# Altium schematic symbol library MCU_Cortex_M4_lib.SchLib: 18 symbols (part 1 of 2)
Pins are listed as number, name and electrical type; pins without a type are passive.

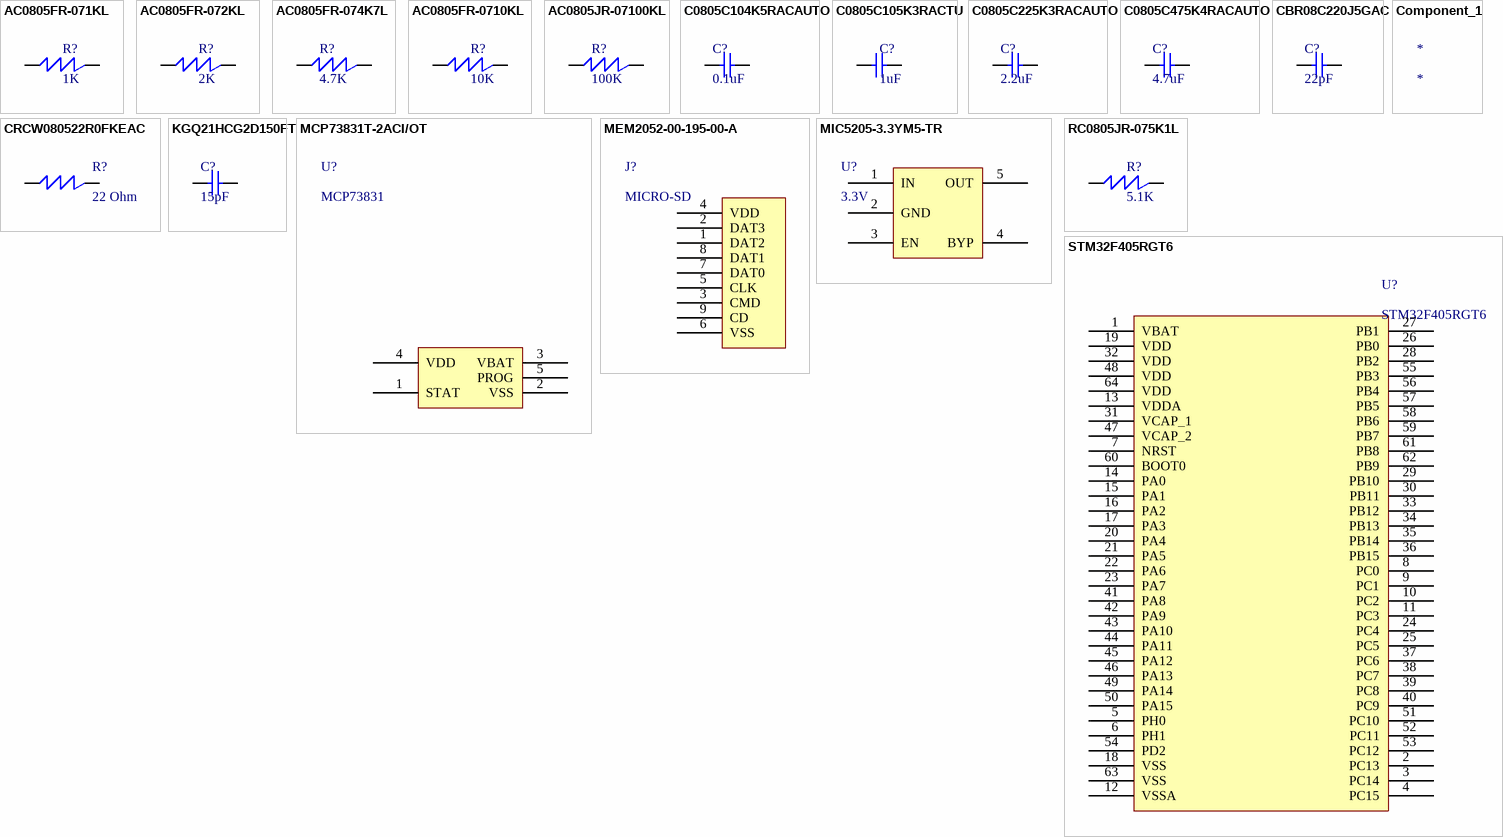
[diagram p0: symbols AC0805FR-071KL to STM32F405RGT6]

## AC0805FR-071KL
designator R?, comment 1K
Res Thick Film 0805 1K Ohm 1% 0.125W(1/8W) ±100ppm/C Pad SMD T/R Automotive AEC-Q200; Manufacturer: Yageo Group; Manufacturer Part Number: AC0805FR-071KL; Max Power Dissipation: 125mW; Value: 1kΩ; Temperature Coefficient: 100ppm/°C; Voltage Rating: 150V; Supplier: RS; Supplier Part Number: 1978173P; RoHS: Compliant; Category: Chip SMD Resistors; Stock: 9000; Pricing: 2500=0,006 (GBP); Case/Package: 0805; Case Code (Imperial): 0805; Case Code (Metric): 2012; China RoHS: Non-Compliant; Composition: Thick Film; Depth: 1.25mm; Features: Automotive AEC-Q200, Moisture Resistant; Height: 500µm; Lead Free: Lead Free; Length: 2mm; Lifecycle Status: Production; Max Operating Temperature: 155°C; Military Standard: Not; Min Operating Temperature: -55°C; Mounting Technology: Surface Mount; Number of Terminals: 2; Number of Terminations: 2; Power Rating: 125mW; Ratings: AEC-Q200; REACH SVHC: Yes; Schedule B: 8533210045, 8533210045|8533210045, 8533210045|8533210045|8533210045, 8533210045|8533210045|8533210045|8533210045; Termination: SMD/SMT; Tolerance: 1%; Width: 1.25mm; Working Voltage: 150V; ComponentLink1URL: https://datasheet.octopart.com:443/AC0805FR-071KL-Yageo-datasheet-182189377.pdf?src-supplier=IHS; ComponentLink1Description: https://datasheet.octopart.com:443/AC0805FR-071KL-Yageo-datasheet-182189377.pdf?src-supplier=IHS; ComponentLink2URL: https://datasheet.octopart.com:443/AC0805FR-071KL-Yageo-datasheet-178509465.pdf?src-supplier=Newark; ComponentLink2Description: https://datasheet.octopart.com:443/AC0805FR-071KL-Yageo-datasheet-178509465.pdf?src-supplier=Newark; ComponentLink3URL: https://datasheet.octopart.com/AC0805FR-071KL-Yageo-datasheet-12512238.pdf; ComponentLink3Description: https://datasheet.octopart.com/AC0805FR-071KL-Yageo-datasheet-12512238.pdf; ComponentLink4URL: https://datasheet.octopart.com:443/AC0805FR-071KL-Yageo-datasheet-166720450.pdf?src-supplier=Future+Electronics; ComponentLink4Description: https://datasheet.octopart.com:443/AC0805FR-071KL-Yageo-datasheet-166720450.pdf?src-supplier=Future+Electronics; ComponentLink5URL: https://datasheet.octopart.com:443/AC0805FR-071KL-Yageo-datasheet-151884373.pdf?src-supplier=Future+Electronics; ComponentLink5Description: https://datasheet.octopart.com:443/AC0805FR-071KL-Yageo-datasheet-151884373.pdf?src-supplier=Future+Electronics; ComponentLink6URL: https://datasheet.octopart.com:443/AC0805FR-071KL-Yageo-datasheet-137699919.pdf?src-supplier=Future+Electronics; ComponentLink6Description: https://datasheet.octopart.com:443/AC0805FR-071KL-Yageo-datasheet-137699919.pdf?src-supplier=Future+Electronics; ComponentLink7URL: https://datasheet.octopart.com:443/AC0805FR-071KL-Yageo-datasheet-24580492.pdf?src-supplier=Future+Electronics; ComponentLink7Description: https://datasheet.octopart.com:443/AC0805FR-071KL-Yageo-datasheet-24580492.pdf?src-supplier=Future+Electronics; ComponentLink8URL: https://datasheet.octopart.com:443/AC0805FR-071KL-Yageo-datasheet-13029202.pdf?src-supplier=Future+Electronics; ComponentLink8Description: https://datasheet.octopart.com:443/AC0805FR-071KL-Yageo-datasheet-13029202.pdf?src-supplier=Future+Electronics; ComponentLink9URL: https://datasheet.octopart.com:443/AC0805FR-071KL-Yageo-Group-datasheet-164768995.pdf?src-supplier=ODG+(Origin+Data+Global); ComponentLink9Description: https://datasheet.octopart.com:443/AC0805FR-071KL-Yageo-Group-datasheet-164768995.pdf?src-supplier=ODG+(Origin+Data+Global); ComponentLink10URL: https://datasheet.octopart.com:443/AC0805FR-071KL-Yageo-datasheet-159083007.pdf?src-supplier=TME; ComponentLink10Description: https://datasheet.octopart.com:443/AC0805FR-071KL-Yageo-datasheet-159083007.pdf?src-supplier=TME; ComponentLink11URL: http://sigma.octopart.com:80/conflict_mineral_statement/Yageo-company-3.pdf?src-supplier=Compliance+Statements; ComponentLink11Description: http://sigma.octopart.com:80/conflict_mineral_statement/Yageo-company-3.pdf?src-supplier=Compliance+Statements; ComponentLink12URL: http://sigma.octopart.com:80/rohs_statement/Yageo-company-2.pdf?src-supplier=Compliance+Statements; ComponentLink12Description: http://sigma.octopart.com:80/rohs_statement/Yageo-company-2.pdf?src-supplier=Compliance+Statements
pins: 1, 2

## AC0805FR-072KL
designator R?, comment 2K
Res Thick Film 0805 2K Ohm 1% 0.125W(1/8W) ±100ppm/C Pad SMD Automotive T/R; Manufacturer: Yageo Group; Manufacturer Part Number: AC0805FR-072KL; Manufacturer Package Identifier: 0805 (2012 metric); Max Power Dissipation: 125mW; Value: 2kΩ; Temperature Coefficient: 100ppm/°C; Voltage Rating: 150V; Supplier: Future Electronics; Supplier Part Number: AC0805FR-072KL; RoHS: Compliant; Category: Chip SMD Resistors; Stock: 60000; Pricing: 5000=0,0055, 20000=0,0053, 75000=0,0051, 150000=0,005, 375000=0,0048 (USD); Case/Package: 0805; Case Code (Imperial): 0805; Case Code (Metric): 2012; China RoHS: Non-Compliant; Composition: Thick Film; Features: Automotive AEC-Q200, Moisture Resistant; Height: 500µm; Length: 2mm; Lifecycle Status: Production; Max Operating Temperature: 155°C; Min Operating Temperature: -55°C; Mounting Technology: Surface Mount; Number of Terminals: 2; Number of Terminations: 2; Packaging: Tape & Reel; Power Rating: 125mW; Ratings: AEC-Q200; REACH SVHC: Yes; Schedule B: 8533210045, 8533210045|8533210045, 8533210045|8533210045|8533210045, 8533210045|8533210045|8533210045|8533210045; Termination: SMD/SMT; Tolerance: 1%; Weight: 5.499807mg; Width: 1.25mm; Working Voltage: 150V; ComponentLink1URL: https://datasheet.octopart.com:443/AC0805FR-072KL-Yageo-datasheet-182189377.pdf?src-supplier=IHS; ComponentLink1Description: https://datasheet.octopart.com:443/AC0805FR-072KL-Yageo-datasheet-182189377.pdf?src-supplier=IHS; ComponentLink2URL: https://datasheet.octopart.com:443/AC0805FR-072KL-Yageo-datasheet-178509465.pdf?src-supplier=Newark; ComponentLink2Description: https://datasheet.octopart.com:443/AC0805FR-072KL-Yageo-datasheet-178509465.pdf?src-supplier=Newark; ComponentLink3URL: https://datasheet.octopart.com:443/AC0805FR-072KL-Yageo-Group-datasheet-188689268.pdf?src-supplier=LCSC; ComponentLink3Description: https://datasheet.octopart.com:443/AC0805FR-072KL-Yageo-Group-datasheet-188689268.pdf?src-supplier=LCSC; ComponentLink4URL: https://datasheet.octopart.com:443/AC0805FR-072KL-Yageo-datasheet-166720450.pdf?src-supplier=Future+Electronics; ComponentLink4Description: https://datasheet.octopart.com:443/AC0805FR-072KL-Yageo-datasheet-166720450.pdf?src-supplier=Future+Electronics; ComponentLink5URL: https://datasheet.octopart.com:443/AC0805FR-072KL-Yageo-datasheet-151884373.pdf?src-supplier=Future+Electronics; ComponentLink5Description: https://datasheet.octopart.com:443/AC0805FR-072KL-Yageo-datasheet-151884373.pdf?src-supplier=Future+Electronics; ComponentLink6URL: https://datasheet.octopart.com:443/AC0805FR-072KL-Yageo-datasheet-137699919.pdf?src-supplier=Future+Electronics; ComponentLink6Description: https://datasheet.octopart.com:443/AC0805FR-072KL-Yageo-datasheet-137699919.pdf?src-supplier=Future+Electronics; ComponentLink7URL: https://datasheet.octopart.com:443/AC0805FR-072KL-Yageo-datasheet-83209224.pdf?src-supplier=Future+Electronics; ComponentLink7Description: https://datasheet.octopart.com:443/AC0805FR-072KL-Yageo-datasheet-83209224.pdf?src-supplier=Future+Electronics; ComponentLink8URL: https://datasheet.octopart.com:443/AC0805FR-072KL-Yageo-datasheet-62139191.pdf?src-supplier=Future+Electronics; ComponentLink8Description: https://datasheet.octopart.com:443/AC0805FR-072KL-Yageo-datasheet-62139191.pdf?src-supplier=Future+Electronics; ComponentLink9URL: https://datasheet.octopart.com:443/AC0805FR-072KL-Yageo-Group-datasheet-164768995.pdf?src-supplier=ODG+(Origin+Data+Global); ComponentLink9Description: https://datasheet.octopart.com:443/AC0805FR-072KL-Yageo-Group-datasheet-164768995.pdf?src-supplier=ODG+(Origin+Data+Global); ComponentLink10URL: https://datasheet.octopart.com:443/AC0805FR-072KL-Yageo-datasheet-159083007.pdf?src-supplier=TME; ComponentLink10Description: https://datasheet.octopart.com:443/AC0805FR-072KL-Yageo-datasheet-159083007.pdf?src-supplier=TME; ComponentLink11URL: https://datasheet.octopart.com/AC0805FR-072KL-Yageo-datasheet-12512238.pdf; ComponentLink11Description: https://datasheet.octopart.com/AC0805FR-072KL-Yageo-datasheet-12512238.pdf; ComponentLink12URL: http://sigma.octopart.com:80/conflict_mineral_statement/Yageo-company-3.pdf?src-supplier=Compliance+Statements; ComponentLink12Description: http://sigma.octopart.com:80/conflict_mineral_statement/Yageo-company-3.pdf?src-supplier=Compliance+Statements; ComponentLink13URL: http://sigma.octopart.com:80/rohs_statement/Yageo-company-2.pdf?src-supplier=Compliance+Statements; ComponentLink13Description: http://sigma.octopart.com:80/rohs_statement/Yageo-company-2.pdf?src-supplier=Compliance+Statements
pins: 1, 2

## AC0805FR-074K7L
designator R?, comment 4.7K
Res Thick Film 0805 4.7K Ohm 1% 0.125W(1/8W) ±100ppm/C Pad SMD Automotive T/R; Manufacturer: Yageo Group; Manufacturer Part Number: AC0805FR-074K7L; Max Power Dissipation: 125mW; Value: 4.7kΩ; Temperature Coefficient: 100ppm/°C; Voltage Rating: 150V; Supplier: RS; Supplier Part Number: 1978195; RoHS: Compliant; Category: Chip SMD Resistors; Stock: 5500; Pricing: 500=0,007, 2500=0,005 (GBP); Case/Package: 0805; Case Code (Imperial): 0805; Case Code (Metric): 2012; China RoHS: Non-Compliant; Composition: Thick Film; Country of Origin: Mainland China, Taiwan; Depth: 1.25mm; Export Control Classification Number (ECCN) Code: EAR99; Features: Automotive AEC-Q200, Moisture Resistant; Height: 500µm; Harmonized Tariff Schedule (HTS) Code: 8533.21.00.30; Introduction Date: 2012-04-10; Lead Free: Lead Free; Length: 2mm; Lifecycle Status: Production; Max Operating Temperature: 155°C; Military Standard: Not; Min Operating Temperature: -55°C; Mounting Technology: Surface Mount; Number of Terminals: 2; Number of Terminations: 2; Packaging: Tape & Reel; Power Rating: 125mW; Ratings: AEC-Q200; REACH SVHC: Yes; Schedule B: 8533210045, 8533210045|8533210045|8533210045|8533210045|8533210045; Termination: SMD/SMT; Tolerance: 1%; Width: 1.25mm; Working Voltage: 150V; ComponentLink1URL: https://datasheet.octopart.com:443/AC0805FR-074K7L-Yageo-datasheet-182189377.pdf?src-supplier=IHS; ComponentLink1Description: https://datasheet.octopart.com:443/AC0805FR-074K7L-Yageo-datasheet-182189377.pdf?src-supplier=IHS; ComponentLink2URL: https://datasheet.octopart.com:443/AC0805FR-074K7L-Yageo-datasheet-83209224.pdf?src-supplier=Upverter; ComponentLink2Description: https://datasheet.octopart.com:443/AC0805FR-074K7L-Yageo-datasheet-83209224.pdf?src-supplier=Upverter; ComponentLink3URL: https://datasheet.octopart.com:443/AC0805FR-074K7L-Yageo-datasheet-178509465.pdf?src-supplier=Newark; ComponentLink3Description: https://datasheet.octopart.com:443/AC0805FR-074K7L-Yageo-datasheet-178509465.pdf?src-supplier=Newark; ComponentLink4URL: https://datasheet.octopart.com:443/AC0805FR-074K7L-Yageo-datasheet-182877978.pdf?src-supplier=Newark; ComponentLink4Description: https://datasheet.octopart.com:443/AC0805FR-074K7L-Yageo-datasheet-182877978.pdf?src-supplier=Newark; ComponentLink5URL: https://datasheet.octopart.com:443/AC0805FR-074K7L-Yageo-Group-datasheet-188689268.pdf?src-supplier=LCSC; ComponentLink5Description: https://datasheet.octopart.com:443/AC0805FR-074K7L-Yageo-Group-datasheet-188689268.pdf?src-supplier=LCSC; ComponentLink6URL: https://datasheet.octopart.com/AC0805FR-074K7L-Yageo-datasheet-12512238.pdf; ComponentLink6Description: https://datasheet.octopart.com/AC0805FR-074K7L-Yageo-datasheet-12512238.pdf; ComponentLink7URL: https://datasheet.octopart.com:443/AC0805FR-074K7L-Yageo-Group-datasheet-190382391.pdf?src-supplier=Farnell; ComponentLink7Description: https://datasheet.octopart.com:443/AC0805FR-074K7L-Yageo-Group-datasheet-190382391.pdf?src-supplier=Farnell; ComponentLink8URL: https://datasheet.octopart.com:443/AC0805FR-074K7L-Yageo-datasheet-166720450.pdf?src-supplier=Future+Electronics; ComponentLink8Description: https://datasheet.octopart.com:443/AC0805FR-074K7L-Yageo-datasheet-166720450.pdf?src-supplier=Future+Electronics; ComponentLink9URL: https://datasheet.octopart.com:443/AC0805FR-074K7L-Yageo-datasheet-151884373.pdf?src-supplier=Future+Electronics; ComponentLink9Description: https://datasheet.octopart.com:443/AC0805FR-074K7L-Yageo-datasheet-151884373.pdf?src-supplier=Future+Electronics; ComponentLink10URL: https://datasheet.octopart.com:443/AC0805FR-074K7L-Yageo-datasheet-137699919.pdf?src-supplier=Future+Electronics; ComponentLink10Description: https://datasheet.octopart.com:443/AC0805FR-074K7L-Yageo-datasheet-137699919.pdf?src-supplier=Future+Electronics; ComponentLink11URL: https://datasheet.octopart.com:443/AC0805FR-074K7L-Yageo-datasheet-24580492.pdf?src-supplier=Future+Electronics; ComponentLink11Description: https://datasheet.octopart.com:443/AC0805FR-074K7L-Yageo-datasheet-24580492.pdf?src-supplier=Future+Electronics; ComponentLink12URL: https://datasheet.octopart.com:443/AC0805FR-074K7L-Yageo-datasheet-13029202.pdf?src-supplier=Future+Electronics; ComponentLink12Description: https://datasheet.octopart.com:443/AC0805FR-074K7L-Yageo-datasheet-13029202.pdf?src-supplier=Future+Electronics; ComponentLink13URL: https://datasheet.octopart.com:443/AC0805FR-074K7L-Yageo-Group-datasheet-164768995.pdf?src-supplier=ODG+(Origin+Data+Global); ComponentLink13Description: https://datasheet.octopart.com:443/AC0805FR-074K7L-Yageo-Group-datasheet-164768995.pdf?src-supplier=ODG+(Origin+Data+Global); ComponentLink14URL: https://datasheet.octopart.com:443/AC0805FR-074K7L-Yageo-datasheet-128680604.pdf?src-supplier=X-ON; ComponentLink14Description: https://datasheet.octopart.com:443/AC0805FR-074K7L-Yageo-datasheet-128680604.pdf?src-supplier=X-ON; ComponentLink15URL: http://sigma.octopart.com:80/conflict_mineral_statement/Yageo-company-3.pdf?src-supplier=Compliance+Statements; ComponentLink15Description: http://sigma.octopart.com:80/conflict_mineral_statement/Yageo-company-3.pdf?src-supplier=Compliance+Statements; ComponentLink16URL: http://sigma.octopart.com:80/rohs_statement/Yageo-company-2.pdf?src-supplier=Compliance+Statements; ComponentLink16Description: http://sigma.octopart.com:80/rohs_statement/Yageo-company-2.pdf?src-supplier=Compliance+Statements
pins: 1, 2

## AC0805FR-0710KL
designator R?, comment 10K
Res Thick Film 0805 10K Ohm 1% 0.125W(1/8W) ±100ppm/C Pad SMD Automotive T/R; Manufacturer: Yageo Group; Manufacturer Part Number: AC0805FR-0710KL; Max Power Dissipation: 125mW; Value: 10kΩ; Temperature Coefficient: 100ppm/°C; Voltage Rating: 150V; Supplier: RS; Supplier Part Number: 1978158; RoHS: Compliant; Category: Chip SMD Resistors; Stock: 10000; Pricing: 500=0,009, 1000=0,009, 2500=0,008, 5000=0,008 (GBP); Case/Package: 0805; Case Code (Imperial): 0805; Case Code (Metric): 2012; China RoHS: Non-Compliant; Composition: Thick Film; Depth: 1.25mm; Features: Anti-Sulfur, Automotive AEC-Q200, Moisture Resistant; Height: 500µm; Lead Free: Lead Free; Length: 2mm; Lifecycle Status: Production; Max Operating Temperature: 155°C; Military Standard: Not; Min Operating Temperature: -55°C; Mounting Technology: Surface Mount; Number of Terminals: 2; Number of Terminations: 2; Packaging: Tape & Reel; Power Rating: 125mW; Ratings: AEC-Q200; REACH SVHC: Yes; Schedule B: 8533210045, 8533210045|8533210045, 8533210045|8533210045|8533210045, 8533210045|8533210045|8533210045|8533210045; Termination: SMD/SMT; Tolerance: 1%; Width: 1.25mm; Working Voltage: 150V; ComponentLink1URL: https://datasheet.octopart.com:443/AC0805FR-0710KL-Yageo-datasheet-182189377.pdf?src-supplier=IHS; ComponentLink1Description: https://datasheet.octopart.com:443/AC0805FR-0710KL-Yageo-datasheet-182189377.pdf?src-supplier=IHS; ComponentLink2URL: https://datasheet.octopart.com:443/AC0805FR-0710KL-Yageo-datasheet-83209224.pdf?src-supplier=Upverter; ComponentLink2Description: https://datasheet.octopart.com:443/AC0805FR-0710KL-Yageo-datasheet-83209224.pdf?src-supplier=Upverter; ComponentLink3URL: https://datasheet.octopart.com:443/AC0805FR-0710KL-Yageo-datasheet-178509465.pdf?src-supplier=Newark; ComponentLink3Description: https://datasheet.octopart.com:443/AC0805FR-0710KL-Yageo-datasheet-178509465.pdf?src-supplier=Newark; ComponentLink4URL: https://datasheet.octopart.com/AC0805FR-0710KL-Yageo-datasheet-12512238.pdf; ComponentLink4Description: https://datasheet.octopart.com/AC0805FR-0710KL-Yageo-datasheet-12512238.pdf; ComponentLink5URL: https://datasheet.octopart.com:443/AC0805FR-0710KL-Yageo-Group-datasheet-188689268.pdf?src-supplier=LCSC; ComponentLink5Description: https://datasheet.octopart.com:443/AC0805FR-0710KL-Yageo-Group-datasheet-188689268.pdf?src-supplier=LCSC; ComponentLink6URL: https://datasheet.octopart.com:443/AC0805FR-0710KL-Yageo-datasheet-166720450.pdf?src-supplier=Future+Electronics; ComponentLink6Description: https://datasheet.octopart.com:443/AC0805FR-0710KL-Yageo-datasheet-166720450.pdf?src-supplier=Future+Electronics; ComponentLink7URL: https://datasheet.octopart.com:443/AC0805FR-0710KL-Yageo-datasheet-151884373.pdf?src-supplier=Future+Electronics; ComponentLink7Description: https://datasheet.octopart.com:443/AC0805FR-0710KL-Yageo-datasheet-151884373.pdf?src-supplier=Future+Electronics; ComponentLink8URL: https://datasheet.octopart.com:443/AC0805FR-0710KL-Yageo-datasheet-137699919.pdf?src-supplier=Future+Electronics; ComponentLink8Description: https://datasheet.octopart.com:443/AC0805FR-0710KL-Yageo-datasheet-137699919.pdf?src-supplier=Future+Electronics; ComponentLink9URL: https://datasheet.octopart.com:443/AC0805FR-0710KL-Yageo-datasheet-24580492.pdf?src-supplier=Future+Electronics; ComponentLink9Description: https://datasheet.octopart.com:443/AC0805FR-0710KL-Yageo-datasheet-24580492.pdf?src-supplier=Future+Electronics; ComponentLink10URL: https://datasheet.octopart.com:443/AC0805FR-0710KL-Yageo-datasheet-13029202.pdf?src-supplier=Future+Electronics; ComponentLink10Description: https://datasheet.octopart.com:443/AC0805FR-0710KL-Yageo-datasheet-13029202.pdf?src-supplier=Future+Electronics; ComponentLink11URL: https://datasheet.octopart.com:443/AC0805FR-0710KL-Yageo-Group-datasheet-164768995.pdf?src-supplier=ODG+(Origin+Data+Global); ComponentLink11Description: https://datasheet.octopart.com:443/AC0805FR-0710KL-Yageo-Group-datasheet-164768995.pdf?src-supplier=ODG+(Origin+Data+Global); ComponentLink12URL: https://datasheet.octopart.com:443/AC0805FR-0710KL-Yageo-datasheet-159083007.pdf?src-supplier=TME; ComponentLink12Description: https://datasheet.octopart.com:443/AC0805FR-0710KL-Yageo-datasheet-159083007.pdf?src-supplier=TME; ComponentLink13URL: https://datasheet.octopart.com:443/AC0805FR-0710KL-Yageo-datasheet-128680559.pdf?src-supplier=X-ON; ComponentLink13Description: https://datasheet.octopart.com:443/AC0805FR-0710KL-Yageo-datasheet-128680559.pdf?src-supplier=X-ON; ComponentLink14URL: https://datasheet.octopart.com:443/AC0805FR-0710KL-Yageo-datasheet-140571090.pdf?src-supplier=Arrow.cn; ComponentLink14Description: https://datasheet.octopart.com:443/AC0805FR-0710KL-Yageo-datasheet-140571090.pdf?src-supplier=Arrow.cn; ComponentLink15URL: http://sigma.octopart.com:80/conflict_mineral_statement/Yageo-company-3.pdf?src-supplier=Compliance+Statements; ComponentLink15Description: http://sigma.octopart.com:80/conflict_mineral_statement/Yageo-company-3.pdf?src-supplier=Compliance+Statements; ComponentLink16URL: http://sigma.octopart.com:80/rohs_statement/Yageo-company-2.pdf?src-supplier=Compliance+Statements; ComponentLink16Description: http://sigma.octopart.com:80/rohs_statement/Yageo-company-2.pdf?src-supplier=Compliance+Statements
pins: 1, 2

## AC0805JR-07100KL
designator R?, comment 100K
Res Thick Film 0805 100K Ohm 5% 0.125W(1/8W) ±100ppm/C Pad SMD Automotive T/R; Manufacturer: Yageo Group; Manufacturer Part Number: AC0805JR-07100KL; Manufacturer Package Identifier: 0805 (2012 metric); Max Power Dissipation: 125mW; Value: 100kΩ; Temperature Coefficient: 100ppm/°C; Voltage Rating: 150V; Supplier: Future Electronics; Supplier Part Number: AC0805JR-07100KL; RoHS: Compliant; Category: Chip SMD Resistors; Stock: 150000; Pricing: 5000=0,0046, 20000=0,0045, 75000=0,0043, 200000=0,0042, 500000=0,004 (USD); Case/Package: 0805; Case Code (Imperial): 0805; Case Code (Metric): 2012; China RoHS: Non-Compliant; Composition: Thick Film; Features: Automotive AEC-Q200, Moisture Resistant; Height: 500µm; Length: 2mm; Lifecycle Status: Production; Max Operating Temperature: 155°C; Min Operating Temperature: -55°C; Mounting Technology: Surface Mount; Number of Terminals: 2; Number of Terminations: 2; Packaging: Tape & Reel; Power Rating: 125mW; Ratings: AEC-Q200; REACH SVHC: Yes; Schedule B: 8533210045, 8533210045|8533210045, 8533210045|8533210045|8533210045, 8533210045|8533210045|8533210045|8533210045; Termination: SMD/SMT; Tolerance: 5%; Weight: 5.499807mg; Width: 1.25mm; Working Voltage: 150V; ComponentLink1URL: https://datasheet.octopart.com:443/AC0805JR-07100KL-Yageo-datasheet-182189377.pdf?src-supplier=IHS; ComponentLink1Description: https://datasheet.octopart.com:443/AC0805JR-07100KL-Yageo-datasheet-182189377.pdf?src-supplier=IHS; ComponentLink2URL: https://datasheet.octopart.com:443/AC0805JR-07100KL-Yageo-datasheet-83209224.pdf?src-supplier=Upverter; ComponentLink2Description: https://datasheet.octopart.com:443/AC0805JR-07100KL-Yageo-datasheet-83209224.pdf?src-supplier=Upverter; ComponentLink3URL: https://datasheet.octopart.com:443/AC0805JR-07100KL-Yageo-datasheet-178509465.pdf?src-supplier=Newark; ComponentLink3Description: https://datasheet.octopart.com:443/AC0805JR-07100KL-Yageo-datasheet-178509465.pdf?src-supplier=Newark; ComponentLink4URL: https://datasheet.octopart.com:443/AC0805JR-07100KL-Yageo-datasheet-166720450.pdf?src-supplier=JRH+Electronics; ComponentLink4Description: https://datasheet.octopart.com:443/AC0805JR-07100KL-Yageo-datasheet-166720450.pdf?src-supplier=JRH+Electronics; ComponentLink5URL: https://datasheet.octopart.com:443/AC0805JR-07100KL-Yageo-Group-datasheet-164768995.pdf?src-supplier=ODG+(Origin+Data+Global); ComponentLink5Description: https://datasheet.octopart.com:443/AC0805JR-07100KL-Yageo-Group-datasheet-164768995.pdf?src-supplier=ODG+(Origin+Data+Global); ComponentLink6URL: https://datasheet.octopart.com:443/AC0805JR-07100KL-Yageo-datasheet-151884373.pdf?src-supplier=Future+Electronics; ComponentLink6Description: https://datasheet.octopart.com:443/AC0805JR-07100KL-Yageo-datasheet-151884373.pdf?src-supplier=Future+Electronics; ComponentLink7URL: https://datasheet.octopart.com:443/AC0805JR-07100KL-Yageo-datasheet-137699919.pdf?src-supplier=Future+Electronics; ComponentLink7Description: https://datasheet.octopart.com:443/AC0805JR-07100KL-Yageo-datasheet-137699919.pdf?src-supplier=Future+Electronics; ComponentLink8URL: https://datasheet.octopart.com:443/AC0805JR-07100KL-Yageo-datasheet-62139191.pdf?src-supplier=Future+Electronics; ComponentLink8Description: https://datasheet.octopart.com:443/AC0805JR-07100KL-Yageo-datasheet-62139191.pdf?src-supplier=Future+Electronics; ComponentLink9URL: https://datasheet.octopart.com/AC0805JR-07100KL-Yageo-datasheet-12512238.pdf; ComponentLink9Description: https://datasheet.octopart.com/AC0805JR-07100KL-Yageo-datasheet-12512238.pdf; ComponentLink10URL: https://datasheet.octopart.com:443/AC0805JR-07100KL-Yageo-datasheet-128558587.pdf?src-supplier=X-ON; ComponentLink10Description: https://datasheet.octopart.com:443/AC0805JR-07100KL-Yageo-datasheet-128558587.pdf?src-supplier=X-ON; ComponentLink11URL: http://sigma.octopart.com:80/conflict_mineral_statement/Yageo-company-3.pdf?src-supplier=Compliance+Statements; ComponentLink11Description: http://sigma.octopart.com:80/conflict_mineral_statement/Yageo-company-3.pdf?src-supplier=Compliance+Statements; ComponentLink12URL: http://sigma.octopart.com:80/rohs_statement/Yageo-company-2.pdf?src-supplier=Compliance+Statements; ComponentLink12Description: http://sigma.octopart.com:80/rohs_statement/Yageo-company-2.pdf?src-supplier=Compliance+Statements
pins: 1, 2

## C0805C104K5RACAUTO
designator C?, comment 0.1uF
CAP CER 0.1UF 50V X7R 0805 / 0.1 µF ±10% 50V Ceramic Capacitor X7R 0805 (2012 Metric); Manufacturer: Yageo Group; Manufacturer Part Number: C0805C104K5RACAUTO; Value: 100nF; Temperature Coefficient: 30ppm/°C; Supplier: RS; Supplier Part Number: 1335642; RoHS: Compliant; Category: Ceramic Capacitors; Stock: 3750; Pricing: 250=0,025, 1000=0,023, 2500=0,022, 5000=0,021, 12500=0,019 (GBP); Case/Package: 0805; Case Code (Imperial): 0805; Case Code (Metric): 2012; China RoHS: Compliant; Contact Plating: Tin; Depth: 1.25mm; Dielectric: X7R; Dielectric Material: Ceramic; Height: 780µm; Length: 2mm; Lifecycle Status: Production; Material: Ceramic; Max Operating Temperature: 125°C; Min Operating Temperature: -55°C; Mounting Technology: Surface Mount; Number of Terminals: 2; Packaging: Cut Tape; Radiation Hardening: No; Ratings: AEC-Q200; REACH SVHC: Yes; Schedule B: 8532240020, 8532240020|8532240020|8532240020|8532240020|8532240020; Termination: SMD/SMT; Thickness: 889µm; Tolerance: 10%; Voltage Rating: 50V; Voltage Rating (DC): 50V; Width: 1.25mm; ComponentLink1URL: https://datasheet.octopart.com:443/C0805C104K5RACAUTO-KEMET-datasheet-178087915.pdf?src-supplier=IHS; ComponentLink1Description: https://datasheet.octopart.com:443/C0805C104K5RACAUTO-KEMET-datasheet-178087915.pdf?src-supplier=IHS; ComponentLink2URL: https://datasheet.octopart.com:443/C0805C104K5RACAUTO-KEMET-datasheet-68331921.pdf?src-supplier=Upverter; ComponentLink2Description: https://datasheet.octopart.com:443/C0805C104K5RACAUTO-KEMET-datasheet-68331921.pdf?src-supplier=Upverter; ComponentLink3URL: https://datasheet.octopart.com:443/C0805C104K5RACAUTO-KEMET-datasheet-103687853.pdf?src-supplier=Farnell; ComponentLink3Description: https://datasheet.octopart.com:443/C0805C104K5RACAUTO-KEMET-datasheet-103687853.pdf?src-supplier=Farnell; ComponentLink4URL: https://datasheet.octopart.com:443/C0805C104K5RACAUTO-KEMET-datasheet-102648989.pdf?src-supplier=Farnell; ComponentLink4Description: https://datasheet.octopart.com:443/C0805C104K5RACAUTO-KEMET-datasheet-102648989.pdf?src-supplier=Farnell; ComponentLink5URL: https://datasheet.octopart.com:443/C0805C104K5RACAUTO-KEMET-datasheet-138896278.pdf?src-supplier=Farnell; ComponentLink5Description: https://datasheet.octopart.com:443/C0805C104K5RACAUTO-KEMET-datasheet-138896278.pdf?src-supplier=Farnell; ComponentLink6URL: https://datasheet.octopart.com:443/C0805C104K5RACAUTO-KEMET-datasheet-176142296.pdf?src-supplier=Farnell; ComponentLink6Description: https://datasheet.octopart.com:443/C0805C104K5RACAUTO-KEMET-datasheet-176142296.pdf?src-supplier=Farnell; ComponentLink7URL: https://datasheet.octopart.com:443/C0805C104K5RACAUTO-Kemet-datasheet-13693438.pdf?src-supplier=Farnell; ComponentLink7Description: https://datasheet.octopart.com:443/C0805C104K5RACAUTO-Kemet-datasheet-13693438.pdf?src-supplier=Farnell; ComponentLink8URL: https://datasheet.octopart.com:443/C0805C104K5RAC-AUTO-Kemet-datasheet-11517047.pdf?src-supplier=Farnell; ComponentLink8Description: https://datasheet.octopart.com:443/C0805C104K5RAC-AUTO-Kemet-datasheet-11517047.pdf?src-supplier=Farnell; ComponentLink9URL: https://datasheet.octopart.com:443/C0805C104K5RACAUTO-Kemet-datasheet-17277844.pdf?src-supplier=Newark; ComponentLink9Description: https://datasheet.octopart.com:443/C0805C104K5RACAUTO-Kemet-datasheet-17277844.pdf?src-supplier=Newark; ComponentLink10URL: https://datasheet.octopart.com:443/C0805C104K5RAC-AUTO-Kemet-datasheet-10850653.pdf?src-supplier=Newark; ComponentLink10Description: https://datasheet.octopart.com:443/C0805C104K5RAC-AUTO-Kemet-datasheet-10850653.pdf?src-supplier=Newark; ComponentLink11URL: https://datasheet.octopart.com:443/C0805C104K5RACAUTO-KEMET-datasheet-176289590.pdf?src-supplier=Newark; ComponentLink11Description: https://datasheet.octopart.com:443/C0805C104K5RACAUTO-KEMET-datasheet-176289590.pdf?src-supplier=Newark; ComponentLink12URL: https://datasheet.octopart.com:443/C0805C104K5RACAUTO-KEMET-datasheet-100433856.pdf?src-supplier=Newark; ComponentLink12Description: https://datasheet.octopart.com:443/C0805C104K5RACAUTO-KEMET-datasheet-100433856.pdf?src-supplier=Newark; ComponentLink13URL: https://datasheet.octopart.com:443/C0805C104K5RACAUTO-Kemet-datasheet-66532291.pdf?src-supplier=element14+APAC; ComponentLink13Description: https://datasheet.octopart.com:443/C0805C104K5RACAUTO-Kemet-datasheet-66532291.pdf?src-supplier=element14+APAC; ComponentLink14URL: https://datasheet.octopart.com:443/C0805C104K5RACAUTO-KEMET-datasheet-74831627.pdf?src-supplier=element14+APAC; ComponentLink14Description: https://datasheet.octopart.com:443/C0805C104K5RACAUTO-KEMET-datasheet-74831627.pdf?src-supplier=element14+APAC; ComponentLink15URL: https://datasheet.octopart.com:443/C0805C104K5RACAUTO-Kemet-datasheet-66128694.pdf?src-supplier=element14+APAC; ComponentLink15Description: https://datasheet.octopart.com:443/C0805C104K5RACAUTO-Kemet-datasheet-66128694.pdf?src-supplier=element14+APAC; ComponentLink16URL: https://datasheet.octopart.com:443/C0805C104K5RACAUTO-KEMET-datasheet-142166320.pdf?src-supplier=Electro+Sonic; ComponentLink16Description: https://datasheet.octopart.com:443/C0805C104K5RACAUTO-KEMET-datasheet-142166320.pdf?src-supplier=Electro+Sonic; ComponentLink17URL: https://datasheet.octopart.com:443/C0805C104K5RACAUTO-KEMET-datasheet-83968784.pdf?src-supplier=TME; ComponentLink17Description: https://datasheet.octopart.com:443/C0805C104K5RACAUTO-KEMET-datasheet-83968784.pdf?src-supplier=TME; ComponentLink18URL: https://datasheet.octopart.com:443/C0805C104K5RACAUTO-Kemet-datasheet-67847107.pdf?src-supplier=TME; ComponentLink18Description: https://datasheet.octopart.com:443/C0805C104K5RACAUTO-Kemet-datasheet-67847107.pdf?src-supplier=TME; ComponentLink19URL: https://datasheet.octopart.com:443/C0805C104K5RACAUTO-Kemet-datasheet-62098573.pdf?src-supplier=TME; ComponentLink19Description: https://datasheet.octopart.com:443/C0805C104K5RACAUTO-Kemet-datasheet-62098573.pdf?src-supplier=TME; ComponentLink20URL: https://datasheet.octopart.com:443/C0805C104K5RACAUTO-Kemet-datasheet-17577222.pdf?src-supplier=TME; ComponentLink20Description: https://datasheet.octopart.com:443/C0805C104K5RACAUTO-Kemet-datasheet-17577222.pdf?src-supplier=TME; ComponentLink21URL: https://datasheet.octopart.com/C0805C104K5RACAUTO-KEMET-datasheet-84169754.pdf; ComponentLink21Description: https://datasheet.octopart.com/C0805C104K5RACAUTO-KEMET-datasheet-84169754.pdf
pins: 1, 2

## C0805C105K3RACTU
designator C?, comment 1uF
Multilayer Ceramic Capacitors MLCC – SMD/SMT; KEMET; C0805C105K3RACTU; 1 µF; 0805; 25 V; 25 V; Manufacturer: Yageo Group; Manufacturer Package Identifier: 0805 (2012 metric); Value: 1µF; Dielectric: X7R; Tolerance: 10%; Voltage: 25V; Supplier: RS; Supplier Part Number: 6911167; Manufacturer Part Number: C0805C105K3RACTU; RoHS: Compliant; Category: Ceramic Capacitors; Stock: 5350; Pricing: 50=0,051, 250=0,048, 500=0,045, 1000=0,042, 2500=0,038 (GBP); Case/Package: 0805; Case Code (Imperial): 0805; Case Code (Metric): 2012; China RoHS: Compliant; Contact Plating: Tin; Country of Origin: Mainland China; Depth: 1.25mm; Dielectric Material: Ceramic; Export Control Classification Number (ECCN) Code: EAR99; Height: 1.25mm; Harmonized Tariff Schedule (HTS) Code: 8532.24.00.20; Introduction Date: 2008-01-10; Length: 2mm; Lifecycle Status: Production; Material: Ceramic; Max Operating Temperature: 125°C; Min Operating Temperature: -55°C; Mounting Technology: Surface Mount; Pins: 2; Number of Terminals: 2; Radiation Hardening: No; REACH SVHC: Yes; Schedule B: 8532240020, 8532240020|8532240020|8532240020|8532240020|8532240020|8532240020|8532240020|8532240020|8532240020|8532240020|8532240020|8532240020|8532240020|8532240020|8532240020|8532240020|8532240020|8532240020|8532240020|8532240020|8532240020|8532240020|8532240020|85; Termination: SMD/SMT; Thickness: 1.397mm; Voltage Rating: 25V; Voltage Rating (DC): 25V; Width: 1.25mm; ComponentLink1URL: https://datasheet.octopart.com:443/C0805C105K3RACTU-KEMET-datasheet-178445679.pdf?src-supplier=IHS; ComponentLink1Description: https://datasheet.octopart.com:443/C0805C105K3RACTU-KEMET-datasheet-178445679.pdf?src-supplier=IHS; ComponentLink2URL: https://datasheet.octopart.com:443/C0805C105K3RACTU-KEMET-datasheet-137357759.pdf?src-supplier=Farnell; ComponentLink2Description: https://datasheet.octopart.com:443/C0805C105K3RACTU-KEMET-datasheet-137357759.pdf?src-supplier=Farnell; ComponentLink3URL: https://datasheet.octopart.com:443/C0805C105K3RACTU-Kemet-datasheet-5313890.pdf?src-supplier=Farnell; ComponentLink3Description: https://datasheet.octopart.com:443/C0805C105K3RACTU-Kemet-datasheet-5313890.pdf?src-supplier=Farnell; ComponentLink4URL: https://datasheet.octopart.com:443/C0805C105K3RACTU-KEMET-datasheet-32036385.pdf?src-supplier=Farnell; ComponentLink4Description: https://datasheet.octopart.com:443/C0805C105K3RACTU-KEMET-datasheet-32036385.pdf?src-supplier=Farnell; ComponentLink5URL: https://datasheet.octopart.com:443/C0805C105K3RACTU-Kemet-datasheet-8764837.pdf?src-supplier=Farnell; ComponentLink5Description: https://datasheet.octopart.com:443/C0805C105K3RACTU-Kemet-datasheet-8764837.pdf?src-supplier=Farnell; ComponentLink6URL: https://datasheet.octopart.com:443/C0805C105K3RACTU-Kemet-datasheet-8480123.pdf?src-supplier=Farnell; ComponentLink6Description: https://datasheet.octopart.com:443/C0805C105K3RACTU-Kemet-datasheet-8480123.pdf?src-supplier=Farnell; ComponentLink7URL: https://datasheet.octopart.com:443/C0805C105K3RACTU-Kemet-datasheet-5390537.pdf?src-supplier=Farnell; ComponentLink7Description: https://datasheet.octopart.com:443/C0805C105K3RACTU-Kemet-datasheet-5390537.pdf?src-supplier=Farnell; ComponentLink8URL: https://datasheet.octopart.com:443/C0805C105K3RACTU-Kemet-datasheet-5393970.pdf?src-supplier=Farnell; ComponentLink8Description: https://datasheet.octopart.com:443/C0805C105K3RACTU-Kemet-datasheet-5393970.pdf?src-supplier=Farnell; ComponentLink9URL: https://datasheet.octopart.com:443/C0805C105K3RACTU-Kemet-datasheet-8502025.pdf?src-supplier=Farnell; ComponentLink9Description: https://datasheet.octopart.com:443/C0805C105K3RACTU-Kemet-datasheet-8502025.pdf?src-supplier=Farnell; ComponentLink10URL: https://datasheet.octopart.com:443/C0805C105K3RACTU-Kemet-datasheet-7541751.pdf?src-supplier=Farnell; ComponentLink10Description: https://datasheet.octopart.com:443/C0805C105K3RACTU-Kemet-datasheet-7541751.pdf?src-supplier=Farnell; ComponentLink11URL: https://datasheet.octopart.com:443/C0805C105K3RACTU-Kemet-datasheet-161801.pdf?src-supplier=Farnell; ComponentLink11Description: https://datasheet.octopart.com:443/C0805C105K3RACTU-Kemet-datasheet-161801.pdf?src-supplier=Farnell; ComponentLink12URL: https://datasheet.octopart.com:443/C0805C105K3RACTU-KEMET-datasheet-68331906.pdf?src-supplier=Farnell; ComponentLink12Description: https://datasheet.octopart.com:443/C0805C105K3RACTU-KEMET-datasheet-68331906.pdf?src-supplier=Farnell; ComponentLink13URL: https://datasheet.octopart.com:443/C0805C105K3RACTU-KEMET-datasheet-101576158.pdf?src-supplier=Farnell; ComponentLink13Description: https://datasheet.octopart.com:443/C0805C105K3RACTU-KEMET-datasheet-101576158.pdf?src-supplier=Farnell; ComponentLink14URL: https://datasheet.octopart.com:443/C0805C105K3RACTU.-Kemet-datasheet-41232427.pdf?src-supplier=Farnell; ComponentLink14Description: https://datasheet.octopart.com:443/C0805C105K3RACTU.-Kemet-datasheet-41232427.pdf?src-supplier=Farnell; ComponentLink15URL: https://datasheet.octopart.com:443/C0805C105K3RACTU-KEMET-datasheet-176142298.pdf?src-supplier=Farnell; ComponentLink15Description: https://datasheet.octopart.com:443/C0805C105K3RACTU-KEMET-datasheet-176142298.pdf?src-supplier=Farnell; ComponentLink16URL: https://datasheet.octopart.com:443/C0805C105K3RACTU-Kemet-datasheet-5340275.pdf?src-supplier=Farnell; ComponentLink16Description: https://datasheet.octopart.com:443/C0805C105K3RACTU-Kemet-datasheet-5340275.pdf?src-supplier=Farnell; ComponentLink17URL: https://datasheet.octopart.com:443/C0805C105K3RACTU-KEMET-datasheet-149523912.pdf?src-supplier=Newark; ComponentLink17Description: https://datasheet.octopart.com:443/C0805C105K3RACTU-KEMET-datasheet-149523912.pdf?src-supplier=Newark; ComponentLink18URL: https://datasheet.octopart.com:443/C0805C105K3RACTU-KEMET-datasheet-176289598.pdf?src-supplier=Newark; ComponentLink18Description: https://datasheet.octopart.com:443/C0805C105K3RACTU-KEMET-datasheet-176289598.pdf?src-supplier=Newark; ComponentLink19URL: https://datasheet.octopart.com:443/C0805C105K3RACTU-Kemet-datasheet-12608295.pdf?src-supplier=Newark; ComponentLink19Description: https://datasheet.octopart.com:443/C0805C105K3RACTU-Kemet-datasheet-12608295.pdf?src-supplier=Newark; ComponentLink20URL: https://datasheet.octopart.com:443/C0805C105K3RACTU-Kemet-datasheet-11992184.pdf?src-supplier=Newark; ComponentLink20Description: https://datasheet.octopart.com:443/C0805C105K3RACTU-Kemet-datasheet-11992184.pdf?src-supplier=Newark; ComponentLink21URL: https://datasheet.octopart.com:443/C0805C105K3RACTU-Kemet-datasheet-10942409.pdf?src-supplier=Newark; ComponentLink21Description: https://datasheet.octopart.com:443/C0805C105K3RACTU-Kemet-datasheet-10942409.pdf?src-supplier=Newark; ComponentLink22URL: https://datasheet.octopart.com:443/C0805C105K3RACTU-Kemet-datasheet-10404442.pdf?src-supplier=Newark; ComponentLink22Description: https://datasheet.octopart.com:443/C0805C105K3RACTU-Kemet-datasheet-10404442.pdf?src-supplier=Newark; ComponentLink23URL: https://datasheet.octopart.com:443/C0805C105K3RACTU..-Kemet-datasheet-66413465.pdf?src-supplier=element14+APAC; ComponentLink23Description: https://datasheet.octopart.com:443/C0805C105K3RACTU..-Kemet-datasheet-66413465.pdf?src-supplier=element14+APAC; ComponentLink24URL: https://datasheet.octopart.com:443/C0805C105K3RACTU-Kemet-datasheet-23692949.pdf?src-supplier=element14+APAC; ComponentLink24Description: https://datasheet.octopart.com:443/C0805C105K3RACTU-Kemet-datasheet-23692949.pdf?src-supplier=element14+APAC; ComponentLink25URL: https://datasheet.octopart.com:443/C0805C105K3RACTU-Kemet-datasheet-22084244.pdf?src-supplier=element14+APAC; ComponentLink25Description: https://datasheet.octopart.com:443/C0805C105K3RACTU-Kemet-datasheet-22084244.pdf?src-supplier=element14+APAC; ComponentLink26URL: https://datasheet.octopart.com:443/C0805C105K3RAC7800-KEMET-datasheet-188512054.pdf?src-supplier=ODG+(Origin+Data+Global); ComponentLink26Description: https://datasheet.octopart.com:443/C0805C105K3RAC7800-KEMET-datasheet-188512054.pdf?src-supplier=ODG+(Origin+Data+Global); ComponentLink27URL: https://datasheet.octopart.com:443/C0805C105K3RACTU-KEMET-datasheet-164512540.pdf?src-supplier=TME; ComponentLink27Description: https://datasheet.octopart.com:443/C0805C105K3RACTU-KEMET-datasheet-164512540.pdf?src-supplier=TME; ComponentLink28URL: https://datasheet.octopart.com:443/C0805C105K3RACTU-Kemet-datasheet-67847111.pdf?src-supplier=TME; ComponentLink28Description: https://datasheet.octopart.com:443/C0805C105K3RACTU-Kemet-datasheet-67847111.pdf?src-supplier=TME; ComponentLink29URL: https://datasheet.octopart.com:443/C0805C105K3RACTU-KEMET-datasheet-110724412.pdf?src-supplier=RS+(Formerly+Allied+Electronics); ComponentLink29Description: https://datasheet.octopart.com:443/C0805C105K3RACTU-KEMET-datasheet-110724412.pdf?src-supplier=RS+(Formerly+Allied+Electronics); ComponentLink30URL: https://datasheet.octopart.com:443/C0805C105K3RACTU-Kemet-datasheet-464.pdf?src-supplier=RS+(Formerly+Allied+Electronics); ComponentLink30Description: https://datasheet.octopart.com:443/C0805C105K3RACTU-Kemet-datasheet-464.pdf?src-supplier=RS+(Formerly+Allied+Electronics); ComponentLink31URL: https://datasheet.octopart.com/C0805C105K3RACTU-KEMET-datasheet-84169754.pdf; ComponentLink31Description: https://datasheet.octopart.com/C0805C105K3RACTU-KEMET-datasheet-84169754.pdf; ComponentLink32URL: https://datasheet.octopart.com:443/C0805C105K3RACTU-Kemet-datasheet-11765922.pdf?src-supplier=Arrow+Electronics; ComponentLink32Description: https://datasheet.octopart.com:443/C0805C105K3RACTU-Kemet-datasheet-11765922.pdf?src-supplier=Arrow+Electronics; ComponentLink33URL: https://datasheet.octopart.com:443/C0805C105K3RAC7800-KEMET-datasheet-164857143.pdf?src-supplier=Burklin+Elektronik; ComponentLink33Description: https://datasheet.octopart.com:443/C0805C105K3RAC7800-KEMET-datasheet-164857143.pdf?src-supplier=Burklin+Elektronik; ComponentLink34URL: http://sigma.octopart.com:80/conflict_mineral_statement/Yageo-company-3.pdf?src-supplier=Compliance+Statements; ComponentLink34Description: http://sigma.octopart.com:80/conflict_mineral_statement/Yageo-company-3.pdf?src-supplier=Compliance+Statements; ComponentLink35URL: http://sigma.octopart.com:80/rohs_statement/Yageo-company-2.pdf?src-supplier=Compliance+Statements; ComponentLink35Description: http://sigma.octopart.com:80/rohs_statement/Yageo-company-2.pdf?src-supplier=Compliance+Statements
pins: 1, 2

## C0805C225K3RACAUTO
designator C?, comment 2.2uF
Multilayer Ceramic Capacitors MLCC - SMD/SMT 25V 2.2uF X7R 0805 10% AEC-Q200; Manufacturer: Yageo Group; Manufacturer Part Number: C0805C225K3RACAUTO; Value: 2.2µF; Supplier: DigiKey; Supplier Part Number: 399-C0805C225K3RACAUTOCT-ND; RoHS: Compliant; Category: Ceramic Capacitors; Stock: 24047; Pricing: 1=0,32, 10=0,188, 50=0,135, 100=0,119, 500=0,09198 (USD); Case/Package: 0805; China RoHS: Compliant; Dielectric: X7R; Dielectric Material: Ceramic; Height: 1.25mm; Length: 2mm; Lifecycle Status: Production; Max Operating Temperature: 125°C; Min Operating Temperature: -55°C; Mounting Technology: Surface Mount; Number of Terminals: 2; Ratings: AEC-Q200; REACH SVHC: Yes; Tolerance: 10%; Voltage Rating (DC): 25V; Width: 1.25mm; ComponentLink1URL: https://datasheet.octopart.com:443/C0805C225K3RACAUTO-KEMET-datasheet-178087915.pdf?src-supplier=IHS; ComponentLink1Description: https://datasheet.octopart.com:443/C0805C225K3RACAUTO-KEMET-datasheet-178087915.pdf?src-supplier=IHS; ComponentLink2URL: https://datasheet.octopart.com:443/C0805C225K3RACAUTO-KEMET-datasheet-138896278.pdf?src-supplier=Newark; ComponentLink2Description: https://datasheet.octopart.com:443/C0805C225K3RACAUTO-KEMET-datasheet-138896278.pdf?src-supplier=Newark; ComponentLink3URL: https://datasheet.octopart.com:443/C0805C225K3RACAUTO-KEMET-datasheet-170333838.pdf?src-supplier=Newark; ComponentLink3Description: https://datasheet.octopart.com:443/C0805C225K3RACAUTO-KEMET-datasheet-170333838.pdf?src-supplier=Newark; ComponentLink4URL: https://datasheet.octopart.com:443/C0805C225K3RACAUTO-KEMET-datasheet-170576079.pdf?src-supplier=element14+APAC; ComponentLink4Description: https://datasheet.octopart.com:443/C0805C225K3RACAUTO-KEMET-datasheet-170576079.pdf?src-supplier=element14+APAC; ComponentLink5URL: https://datasheet.octopart.com/C0805C225K3RACAUTO-KEMET-datasheet-84169754.pdf; ComponentLink5Description: https://datasheet.octopart.com/C0805C225K3RACAUTO-KEMET-datasheet-84169754.pdf
pins: 1, 2

## C0805C475K4RACAUTO
designator C?, comment 4.7uF
Multilayer Ceramic Capacitors MLCC - SMD/SMT 16V 4.7uF X7R 0805 10% AEC-Q200; Manufacturer: Yageo Group; Manufacturer Part Number: C0805C475K4RACAUTO; Value: 4.7µF; Supplier: RS; Supplier Part Number: 1526094; RoHS: Compliant; Category: Ceramic Capacitors; Stock: 2350; Pricing: 10=0,085, 50=0,077, 100=0,064, 500=0,059, 2000=0,058 (GBP); Case/Package: 0805; China RoHS: Compliant; Country of Origin: Mexico; Dielectric: X7R; Dielectric Material: Ceramic; Export Control Classification Number (ECCN) Code: EAR99; Height: 1.25mm; Harmonized Tariff Schedule (HTS) Code: 8532.24.00.20; Introduction Date: 2017-09-08; Length: 2mm; Lifecycle Status: Production; Max Operating Temperature: 125°C; Min Operating Temperature: -55°C; Mounting Technology: Surface Mount; Number of Terminals: 2; Packaging: Cut Tape; Ratings: AEC-Q200; REACH SVHC: Yes; Schedule B: 8532240020; Voltage Rating (DC): 16V; Width: 1.25mm; ComponentLink1URL: https://datasheet.octopart.com:443/C0805C475K4RACAUTO-KEMET-datasheet-170281384.pdf?src-supplier=IHS; ComponentLink1Description: https://datasheet.octopart.com:443/C0805C475K4RACAUTO-KEMET-datasheet-170281384.pdf?src-supplier=IHS; ComponentLink2URL: https://datasheet.octopart.com:443/C0805C475K4RACAUTO-KEMET-datasheet-149524423.pdf?src-supplier=Farnell; ComponentLink2Description: https://datasheet.octopart.com:443/C0805C475K4RACAUTO-KEMET-datasheet-149524423.pdf?src-supplier=Farnell; ComponentLink3URL: https://datasheet.octopart.com:443/C0805C475K4RACAUTO-KEMET-datasheet-95361269.pdf?src-supplier=Farnell; ComponentLink3Description: https://datasheet.octopart.com:443/C0805C475K4RACAUTO-KEMET-datasheet-95361269.pdf?src-supplier=Farnell; ComponentLink4URL: https://datasheet.octopart.com:443/C0805C475K4RACAUTO-KEMET-datasheet-138896278.pdf?src-supplier=Newark; ComponentLink4Description: https://datasheet.octopart.com:443/C0805C475K4RACAUTO-KEMET-datasheet-138896278.pdf?src-supplier=Newark; ComponentLink5URL: https://datasheet.octopart.com:443/C0805C475K4RACAUTO-KEMET-datasheet-182037776.pdf?src-supplier=Newark; ComponentLink5Description: https://datasheet.octopart.com:443/C0805C475K4RACAUTO-KEMET-datasheet-182037776.pdf?src-supplier=Newark; ComponentLink6URL: https://datasheet.octopart.com:443/C0805C475K4RACAUTO-KEMET-datasheet-189767461.pdf?src-supplier=ODG+(Origin+Data+Global); ComponentLink6Description: https://datasheet.octopart.com:443/C0805C475K4RACAUTO-KEMET-datasheet-189767461.pdf?src-supplier=ODG+(Origin+Data+Global); ComponentLink7URL: https://datasheet.octopart.com:443/C0805C475K4RACAUTO-KEMET-datasheet-130259981.pdf?src-supplier=TME; ComponentLink7Description: https://datasheet.octopart.com:443/C0805C475K4RACAUTO-KEMET-datasheet-130259981.pdf?src-supplier=TME; ComponentLink8URL: https://datasheet.octopart.com:443/C0805C475K4RACAUTO-KEMET-datasheet-130256447.pdf?src-supplier=TME; ComponentLink8Description: https://datasheet.octopart.com:443/C0805C475K4RACAUTO-KEMET-datasheet-130256447.pdf?src-supplier=TME; ComponentLink9URL: https://datasheet.octopart.com:443/C0805C475K4RACAUTO-KEMET-datasheet-110724478.pdf?src-supplier=RS+(Formerly+Allied+Electronics); ComponentLink9Description: https://datasheet.octopart.com:443/C0805C475K4RACAUTO-KEMET-datasheet-110724478.pdf?src-supplier=RS+(Formerly+Allied+Electronics); ComponentLink10URL: https://datasheet.octopart.com/C0805C475K4RACAUTO-KEMET-datasheet-84169754.pdf; ComponentLink10Description: https://datasheet.octopart.com/C0805C475K4RACAUTO-KEMET-datasheet-84169754.pdf
pins: 1, 2

## CBR08C220J5GAC
designator C?, comment 22pF
Ceramic Capacitor, Multilayer, Ceramic, 50V, 5% +Tol, 5% -Tol, C0G, 30ppm/Cel TC, 0.000022uF, Surface Mount, 0805; Manufacturer: Yageo Group; Manufacturer Part Number: CBR08C220J5GAC; Manufacturer Package Identifier: 0805 (2012 metric); Temperature Coefficient: 30ppm/°C; Supplier: DigiKey; Supplier Part Number: 399-CBR08C220J5GACCT-ND; RoHS: Compliant; Category: Ceramic Capacitors; Stock: 249; Pricing: 1=0,58, 10=0,348, 50=0,2588, 100=0,2313, 500=0,18498 (USD); Value: 22pF; Case/Package: 0805; Dielectric Material: Ceramic; Export Control Classification Number (ECCN) Code: EAR99; Height: 850µm; Harmonized Tariff Schedule (HTS) Code: 8532.24.00.20; Introduction Date: 2011-11-07; Length: 2mm; Lifecycle Status: Production; Material: Ceramic; Max Operating Temperature: 125°C; Min Operating Temperature: -55°C; Mounting Technology: Surface Mount; Number of Terminals: 2; Packaging: Tape & Reel (TR); REACH SVHC: Yes; Thickness: 889µm; Tolerance: 5%; Voltage Rating: 50V; Voltage Rating (DC): 50V; Width: 1.25mm; ComponentLink1URL: https://datasheet.octopart.com:443/CBR08C220J5GAC-KEMET-datasheet-182051217.pdf?src-supplier=IHS; ComponentLink1Description: https://datasheet.octopart.com:443/CBR08C220J5GAC-KEMET-datasheet-182051217.pdf?src-supplier=IHS; ComponentLink2URL: https://datasheet.octopart.com:443/CBR08C220J5GAC-KEMET-datasheet-138896590.pdf?src-supplier=Upverter; ComponentLink2Description: https://datasheet.octopart.com:443/CBR08C220J5GAC-KEMET-datasheet-138896590.pdf?src-supplier=Upverter
pins: 1, 2

## Component_1
designator *